# EAGLE library part MAX232D (library IC)
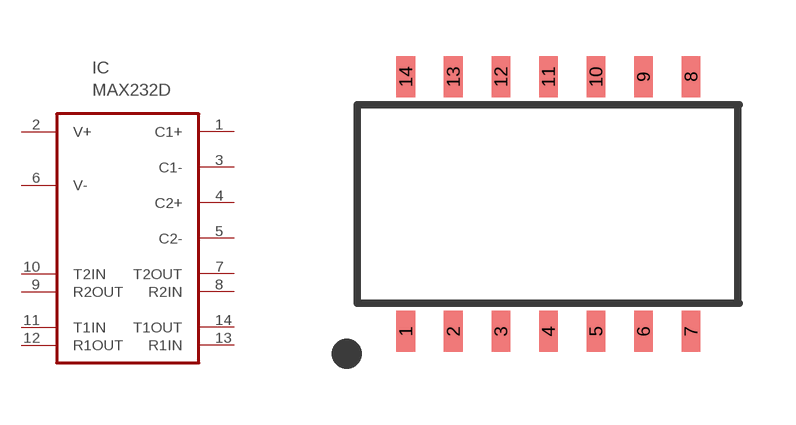
[diagram p10: symbol with the pads of PSOP14-1.27; footprint PSOP14-1.27]

Designator prefix IC

## MAX232D  [PSOP14-1.27]
1  C1+
2  V+  pwr
3  C1-
4  C2+
5  C2-
6  V-  pwr
7  T2OUT  out
8  R2IN  in
9  R2OUT  out
10  T2IN  in
11  T1IN  in
12  R1OUT  out
13  R1IN  in
14  T1OUT  out

## Footprint PSOP14-1.27 (pad centres in mm)
smd 0.5 x 1.1: 1 -3.81,-3.4; 2 -2.54,-3.4; 3 -1.27,-3.4; 4 0,-3.4; 5 1.27,-3.4; 6 2.54,-3.4; 7 3.81,-3.4; 8 3.81,3.4; 9 2.54,3.4; 10 1.27,3.4; 11 0,3.4; 12 -1.27,3.4; 13 -2.54,3.4; 14 -3.81,3.4